# Altium footprint library 2201778-1.PcbLib: 1 footprints
Each footprint in its own frame and in the unit in brackets; x right, y up, seen from the top. Pads: shape width x height; smd on the part's side, far side on the other; paste and mask are expansions set on the pad; w line width, h text height; cw(c..) or ccw(c..) is an arc to the next point about the centre after c.
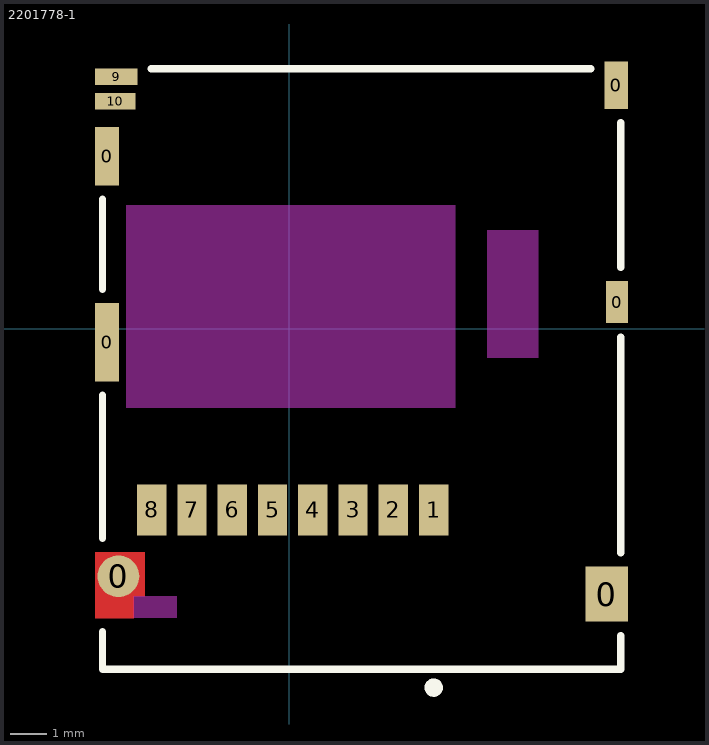
[diagram p0: the footprint, top view; thin cyan lines are the x and y axes]

## 2201778-1 [mm] "uSD Card Socket"
pads (16):
  rect 0.65x2.14 smd paste+0 mask+0: 0(-4.975,-0.37)
  rect 0.65x1.6 smd paste+0 mask+0: 0(-4.975,4.71)
  round 1.139 smd paste+0 mask+0: 0(-4.667,-6.761)
  rect 1.16x1.5 smd paste+0 mask+0: 0(8.67,-7.25)
  rect 0.65x1.3 smd paste+0 mask+0: 0(8.925,6.65)
  rect 0.6x1.15 smd paste+0 mask+0: 0(8.95,0.725)
  rect 0.8x1.4 smd paste+0 mask+0: 1(3.94,-4.95) 2(2.84,-4.95) 3(1.74,-4.95) 4(0.64,-4.95) 5(-0.46,-4.95) 6(-1.56,-4.95) 7(-2.66,-4.95) 8(-3.76,-4.95)
  rect 1.15x0.45 smd paste+0 mask+0: 9(-4.725,6.875)
  rect 1.1x0.45 smd paste+0 mask+0: 10(-4.75,6.215)
Top Layer:
  region: -5.3,-6.1 -3.95,-6.1 -3.95,-7.3 -4.25,-7.3 -4.25,-7.9 -5.3,-7.9
Top Layer keep-out:
  rectangle: 5.4,-0.8 6.8,2.7
  rectangle: -4.46,-2.16 4.54,3.37
Top Overlay:
  circle w0.25: c3.94,-9.8 r0.125
  lines w0.2: -5.1,-8.275 -5.1,-9.3 9.05,-9.3 9.05,-8.375 ; -5.1,-5.725 -5.1,-1.815 ; -5.1,1.075 -5.1,3.535 ; -3.775,7.1 8.225,7.1 ; 9.05,-6.125 9.05,-0.225 ; 9.05,1.675 9.05,5.625
Keep-Out Layer:
  rectangle: -4.25,-7.9 -3.07,-7.3
3D body "Conn_TE_Connectivity_2201778-1_eec.STEP": height 0.25, standoff 0, extent -5.4,-9.4 9.35,7.4